# Altium footprint library Res_sizes.PcbLib: 5 footprints
Each footprint in its own frame and in the unit in brackets; x right, y up, seen from the top. Pads: shape width x height; smd on the part's side, far side on the other; paste and mask are expansions set on the pad; w line width, h text height; cw(c..) or ccw(c..) is an arc to the next point about the centre after c.
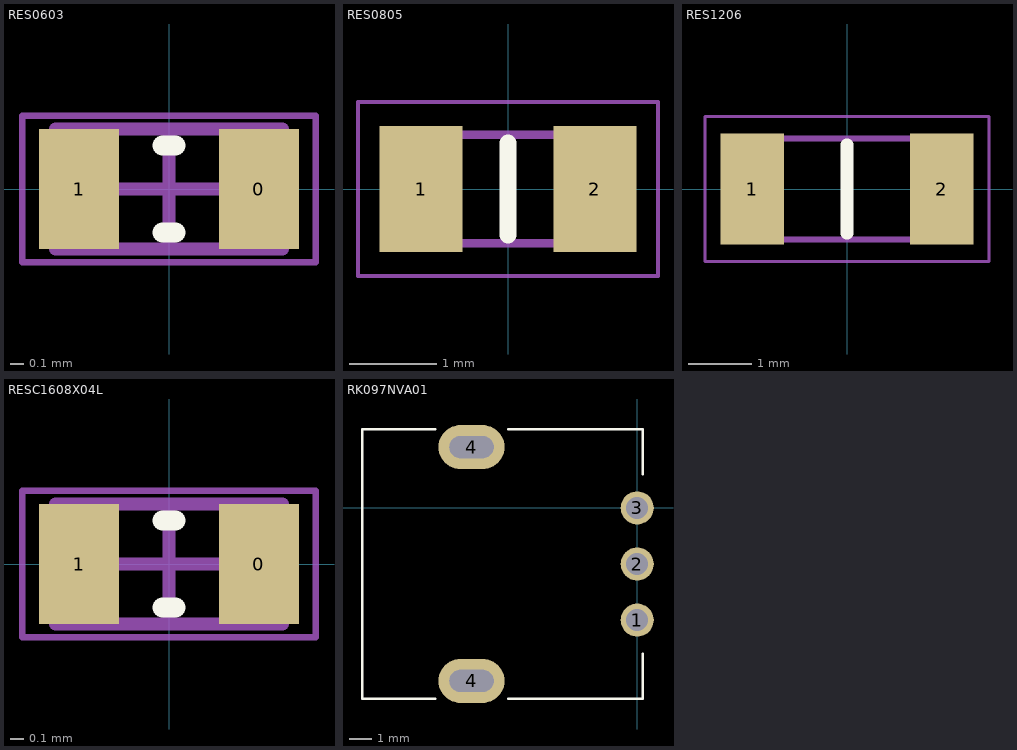
[diagram p0: the footprints below, top view; thin cyan lines are the x and y axes]

## RES0603 [mm] "Chip Resistor, 2-Leads, Body 1,60x0,85mm, IPC High Density"
height 0.45
pads (2):
  rect 0.6x0.9 smd mask+0.05: 0(0.675,0) 1(-0.675,0)
Top Overlay:
  lines w0.15: -0.05,-0.325 0.05,-0.325 ; -0.05,0.325 0.05,0.325
Mechanical 13:
  lines w0.1: -0.85,-0.45 0.85,-0.45 0.85,0.45 -0.85,0.45 -0.85,-0.45
Mechanical 15:
  lines w0.05: -1.1,-0.55 1.1,-0.55 1.1,0.55 -1.1,0.55 -1.1,-0.55
  lines w0.1: -0.45,0 0.45,0 ; 0,-0.45 0,0.45
3D body: height 0.45, standoff 0, extent 0.57,-0.45 0.85,0.45
3D body: height 0.45, standoff 0, extent -0.85,-0.45 -0.57,0.45
3D body: height 0.45, standoff 0, extent -0.57,-0.45 0.57,0.45

## RES0805 [mm]
pads (2):
  rect 0.95x1.45 smd: 1(-1,0) 2(1,0)
Top Overlay:
  lines w0.2: 0,-0.525 0,0.525
Mechanical 13:
  lines w0.1: -1.025,-0.625 1.025,-0.625 1.025,0.625 -1.025,0.625 -1.025,-0.625
Mechanical 15:
  lines w0.05: -1.725,-1 1.725,-1 1.725,1 -1.725,1 -1.725,-1
3D body "CRCW08051K00FKTC.stp": height 0.5, standoff 0, extent -1.025,-0.625 1.025,0.625

## RES1206 [mm]
pads (2):
  rect 1x1.75 smd: 1(-1.5,0) 2(1.5,0)
Top Overlay:
  lines w0.2: 0,-0.7 0,0.7
Mechanical 13:
  lines w0.1: -1.55,-0.8 1.55,-0.8 1.55,0.8 -1.55,0.8 -1.55,-0.8
Mechanical 15:
  lines w0.05: -2.25,-1.15 2.25,-1.15 2.25,1.15 -2.25,1.15 -2.25,-1.15
3D body "RC1206JR-070RL.stp": height 0.65, standoff 0, extent -1.55,-0.8 1.55,0.8

## RESC1608X04L [mm] "Chip Resistor, 2-Leads, Body 1,60x0,85mm, IPC High Density"
height 0.45
pads (2):
  rect 0.6x0.9 smd mask+0.05: 0(0.675,0) 1(-0.675,0)
Top Overlay:
  lines w0.15: -0.05,-0.325 0.05,-0.325 ; -0.05,0.325 0.05,0.325
Mechanical 13:
  lines w0.1: -0.85,-0.45 0.85,-0.45 0.85,0.45 -0.85,0.45 -0.85,-0.45
Mechanical 15:
  lines w0.05: -1.1,-0.55 1.1,-0.55 1.1,0.55 -1.1,0.55 -1.1,-0.55
  lines w0.1: -0.45,0 0.45,0 ; 0,-0.45 0,0.45
3D body: height 0.45, standoff 0, extent 0.57,-0.45 0.85,0.45
3D body: height 0.45, standoff 0, extent -0.85,-0.45 -0.57,0.45
3D body: height 0.45, standoff 0, extent -0.57,-0.45 0.57,0.45

## RK097NVA01 [mm]
pads (5):
  round 1.5 hole 1: 1(0,-5.08) 2(0,-2.54) 3(0,0)
  oval 3x2 hole 1 slot 2 at 0 deg: 4(-7.5,-7.83) 4(-7.5,2.75)
Top Overlay:
  lines w0.1: -9.144,-8.636 -12.446,-8.636 -12.446,3.556 -9.144,3.556 ; -5.842,-8.636 0.254,-8.636 0.254,-6.604 ; -5.842,3.556 0.254,3.556 0.254,1.524
3D body "RK09L11-L200-colored-with-shlitz.step": height 30.1, standoff -3.4, extent -12.35,-8.588 0.15,3.508